# Altium footprint library CONN_TBLOCK_5P0_B.PcbLib: 72 footprints (part 2 of 5)
Each footprint in its own frame and in the unit in brackets; x right, y up, seen from the top. Pads: shape width x height; smd on the part's side, far side on the other; paste and mask are expansions set on the pad; w line width, h text height; cw(c..) or ccw(c..) is an arc to the next point about the centre after c.
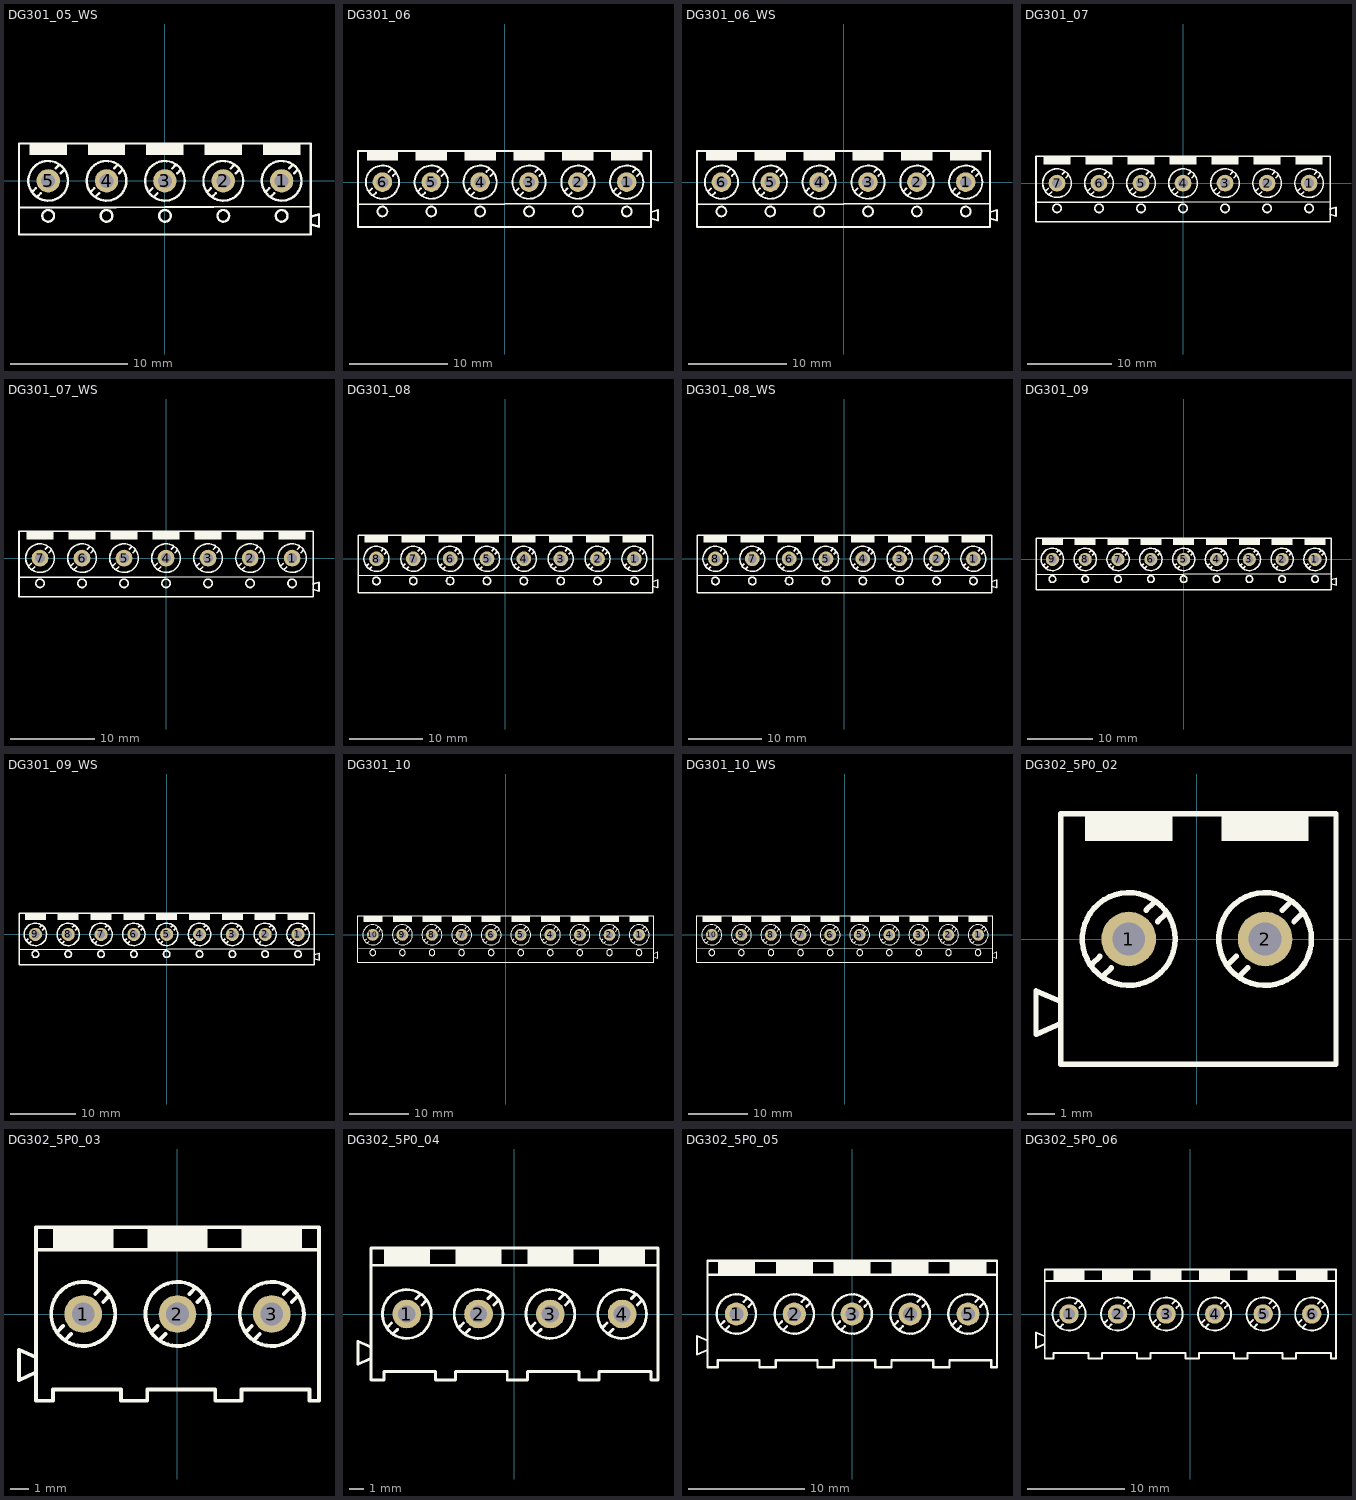
[diagram p1: the footprints below, top view; thin cyan lines are the x and y axes]

## DG301_05_WS [mm] "Terminal Screw, Pitch 5mm, H 10mm, with spade"
height 19
pads (5):
  round 2 / inner round 2 / far side rect 2.4x3 hole 1.2: 1(10,0)
  round 2 / inner round 2 / far side oval 2.4x3 hole 1.2: 2(5,0) 3(0,0) 4(-5,0) 5(-10,0)
Top Overlay:
  circle w0.2: c-10,0 r1.7
  circle w0.2: c-10,-3 r0.5
  circle w0.2: c-5,0 r1.7
  circle w0.2: c0,0 r1.7
  circle w0.2: c-5,-3 r0.5
  circle w0.2: c0,-3 r0.5
  circle w0.2: c5,0 r1.7
  circle w0.2: c10,0 r1.7
  circle w0.2: c5,-3 r0.5
  circle w0.2: c10,-3 r0.5
  region: -8.4,3.2 -11.6,3.2 -11.6,2.2 -8.4,2.2
  region: 1.6,3.2 -1.6,3.2 -1.6,2.2 1.6,2.2
  region: -3.4,3.2 -6.6,3.2 -6.6,2.2 -3.4,2.2
  region: 11.6,3.2 8.4,3.2 8.4,2.2 11.6,2.2
  region: 6.6,3.2 3.4,3.2 3.4,2.2 6.6,2.2
  lines w0.2: -12.5,-2.3 12.5,-2.2 ; -11.343,-0.919 -11.06,-0.636 ; -10.919,-1.344 -10.636,-1.061 ; -9.363,1.061 -9.081,1.343 ; -8.939,0.636 -8.656,0.919 ; -6.343,-0.919 -6.061,-0.636 ; -5.919,-1.344 -5.636,-1.061 ; -4.364,1.061 -4.081,1.343 ; -3.939,0.636 -3.656,0.919 ; -1.344,-0.919 -1.061,-0.636 ; -0.919,-1.344 -0.636,-1.061 ; 0.636,1.061 0.919,1.343 ; 1.061,0.636 1.343,0.919 ; 3.656,-0.919 3.939,-0.636 ; 4.081,-1.344 4.363,-1.061 ; 5.636,1.061 5.919,1.343 ; 6.06,0.636 6.343,0.919 ; 8.656,-0.919 8.939,-0.636 ; 9.081,-1.344 9.363,-1.061 ; 10.636,1.061 10.919,1.343 ; 11.06,0.636 11.343,0.919 ; 12.476,-3.722 13.2,-3.941 13.2,-2.867 12.494,-3.081 ; -12.5,-4.6 12.5,-4.6 12.5,3.2 -12.5,3.2 -12.5,-4.6
3D body "DG301-5.0-05.stp": height 10, standoff -4.3, extent -12.5,-4.5 13.1,3.1
3D body "MDD1.25-110(5).step": height 6.3, standoff 0.91, extent -12.697,-1.524 -7.303,17.476
3D body "MDD1.25-110(5).step": height 6.3, standoff 0.91, extent -7.697,-1.524 -2.303,17.476
3D body "MDD1.25-110(5).step": height 6.3, standoff 0.91, extent -2.697,-1.524 2.697,17.476
3D body "MDD1.25-110(5).step": height 6.3, standoff 0.91, extent 2.303,-1.524 7.697,17.476
3D body "MDD1.25-110(5).step": height 6.3, standoff 0.91, extent 7.303,-1.524 12.697,17.476

## DG301_06 [mm] "Terminal Screw, Pitch 5mm, Blue, H 10mm"
height 10
pads (6):
  round 2 / inner round 2 / far side rect 2.4x3 hole 1.2: 1(12.5,0)
  round 2 / inner round 2 / far side oval 2.4x3 hole 1.2: 2(7.5,0) 3(2.5,0) 4(-2.5,0) 5(-7.5,0) 6(-12.5,0)
Top Overlay:
  circle w0.2: c-12.5,0 r1.7
  circle w0.2: c-7.5,0 r1.7
  circle w0.2: c-12.5,-3 r0.5
  circle w0.2: c-7.5,-3 r0.5
  circle w0.2: c-2.5,0 r1.7
  circle w0.2: c2.5,0 r1.7
  circle w0.2: c-2.5,-3 r0.5
  circle w0.2: c2.5,-3 r0.5
  circle w0.2: c7.5,0 r1.7
  circle w0.2: c12.5,0 r1.7
  circle w0.2: c7.5,-3 r0.5
  circle w0.2: c12.5,-3 r0.5
  region: -5.9,3.2 -9.1,3.2 -9.1,2.2 -5.9,2.2
  region: -10.9,3.2 -14.1,3.2 -14.1,2.2 -10.9,2.2
  region: 4.1,3.2 0.9,3.2 0.9,2.2 4.1,2.2
  region: -0.9,3.2 -4.1,3.2 -4.1,2.2 -0.9,2.2
  region: 14.1,3.2 10.9,3.2 10.9,2.2 14.1,2.2
  region: 9.1,3.2 5.9,3.2 5.9,2.2 9.1,2.2
  lines w0.2: -15,-2.3 15,-2.2 ; -13.843,-0.919 -13.56,-0.636 ; -13.419,-1.344 -13.136,-1.061 ; -11.863,1.061 -11.581,1.343 ; -11.439,0.636 -11.156,0.919 ; -8.843,-0.919 -8.561,-0.636 ; -8.419,-1.344 -8.136,-1.061 ; -6.863,1.061 -6.581,1.343 ; -6.439,0.636 -6.156,0.919 ; -3.844,-0.919 -3.561,-0.636 ; -3.419,-1.344 -3.136,-1.061 ; -1.864,1.061 -1.581,1.343 ; -1.439,0.636 -1.157,0.919 ; 1.156,-0.919 1.439,-0.636 ; 1.581,-1.344 1.863,-1.061 ; 3.136,1.061 3.419,1.343 ; 3.561,0.636 3.843,0.919 ; 6.156,-0.919 6.439,-0.636 ; 6.581,-1.344 6.863,-1.061 ; 8.136,1.061 8.419,1.343 ; 8.56,0.636 8.843,0.919 ; 11.156,-0.919 11.439,-0.636 ; 11.58,-1.344 11.863,-1.061 ; 13.136,1.061 13.419,1.343 ; 13.56,0.636 13.843,0.919 ; 14.976,-3.722 15.7,-3.941 15.7,-2.867 14.994,-3.081 ; -15,-4.6 15,-4.6 15,3.2 -15,3.2 -15,-4.6
3D body "DG301-5.0-06.stp": height 10, standoff -4.3, extent -15,-4.5 15.6,3.1

## DG301_06_WS [mm] "Terminal Screw, Pitch 5mm, H 10mm, with spade"
height 19
pads (6):
  round 2 / inner round 2 / far side rect 2.4x3 hole 1.2: 1(12.5,0)
  round 2 / inner round 2 / far side oval 2.4x3 hole 1.2: 2(7.5,0) 3(2.5,0) 4(-2.5,0) 5(-7.5,0) 6(-12.5,0)
Top Overlay:
  circle w0.2: c12.5,-3 r0.5
  circle w0.2: c7.5,-3 r0.5
  circle w0.2: c12.5,0 r1.7
  circle w0.2: c7.5,0 r1.7
  circle w0.2: c2.5,-3 r0.5
  circle w0.2: c-2.5,-3 r0.5
  circle w0.2: c2.5,0 r1.7
  circle w0.2: c-2.5,0 r1.7
  circle w0.2: c-7.5,-3 r0.5
  circle w0.2: c-12.5,-3 r0.5
  circle w0.2: c-7.5,0 r1.7
  circle w0.2: c-12.5,0 r1.7
  region: 9.1,3.2 5.9,3.2 5.9,2.2 9.1,2.2
  region: 14.1,3.2 10.9,3.2 10.9,2.2 14.1,2.2
  region: -0.9,3.2 -4.1,3.2 -4.1,2.2 -0.9,2.2
  region: 4.1,3.2 0.9,3.2 0.9,2.2 4.1,2.2
  region: -10.9,3.2 -14.1,3.2 -14.1,2.2 -10.9,2.2
  region: -5.9,3.2 -9.1,3.2 -9.1,2.2 -5.9,2.2
  lines w0.2: -15,-2.3 15,-2.2 ; -13.843,-0.919 -13.56,-0.636 ; -13.419,-1.344 -13.136,-1.061 ; -11.863,1.061 -11.581,1.343 ; -11.439,0.636 -11.156,0.919 ; -8.843,-0.919 -8.561,-0.636 ; -8.419,-1.344 -8.136,-1.061 ; -6.863,1.061 -6.581,1.343 ; -6.439,0.636 -6.156,0.919 ; -3.844,-0.919 -3.561,-0.636 ; -3.419,-1.344 -3.136,-1.061 ; -1.864,1.061 -1.581,1.343 ; -1.439,0.636 -1.157,0.919 ; 1.156,-0.919 1.439,-0.636 ; 1.581,-1.344 1.863,-1.061 ; 3.136,1.061 3.419,1.343 ; 3.561,0.636 3.843,0.919 ; 6.156,-0.919 6.439,-0.636 ; 6.581,-1.344 6.863,-1.061 ; 8.136,1.061 8.419,1.343 ; 8.56,0.636 8.843,0.919 ; 11.156,-0.919 11.439,-0.636 ; 11.58,-1.344 11.863,-1.061 ; 13.136,1.061 13.419,1.343 ; 13.56,0.636 13.843,0.919 ; 14.976,-3.722 15.7,-3.941 15.7,-2.867 14.994,-3.081 ; -15,-4.6 -15,3.2 15,3.2 15,-4.6 -15,-4.6
3D body "DG301-5.0-06.stp": height 10, standoff -4.3, extent -15,-4.5 15.6,3.1
3D body "MDD1.25-110(5).step": height 6.3, standoff 0.91, extent -15.197,-1.524 -9.803,17.476
3D body "MDD1.25-110(5).step": height 6.3, standoff 0.91, extent -10.197,-1.524 -4.803,17.476
3D body "MDD1.25-110(5).step": height 6.3, standoff 0.91, extent -5.197,-1.524 0.197,17.476
3D body "MDD1.25-110(5).step": height 6.3, standoff 0.91, extent -0.197,-1.524 5.197,17.476
3D body "MDD1.25-110(5).step": height 6.3, standoff 0.91, extent 4.803,-1.524 10.197,17.476
3D body "MDD1.25-110(5).step": height 6.3, standoff 0.91, extent 9.803,-1.524 15.197,17.476

## DG301_07 [mm] "Terminal Screw, Pitch 5mm, Blue, H 10mm"
height 10
pads (7):
  round 2 / inner round 2 / far side rect 2.4x3 hole 1.2: 1(15,0)
  round 2 / inner round 2 / far side oval 2.4x3 hole 1.2: 2(10,0) 3(5,0) 4(0,0) 5(-5,0) 6(-10,0) 7(-15,0)
Top Overlay:
  circle w0.2: c15,-3 r0.5
  circle w0.2: c10,-3 r0.5
  circle w0.2: c15,0 r1.7
  circle w0.2: c10,0 r1.7
  circle w0.2: c5,-3 r0.5
  circle w0.2: c0,-3 r0.5
  circle w0.2: c5,0 r1.7
  circle w0.2: c0,0 r1.7
  circle w0.2: c-5,-3 r0.5
  circle w0.2: c-10,-3 r0.5
  circle w0.2: c-5,0 r1.7
  circle w0.2: c-10,0 r1.7
  circle w0.2: c-15,-3 r0.5
  circle w0.2: c-15,0 r1.7
  region: 11.6,3.2 8.4,3.2 8.4,2.2 11.6,2.2
  region: 16.6,3.2 13.4,3.2 13.4,2.2 16.6,2.2
  region: 1.6,3.2 -1.6,3.2 -1.6,2.2 1.6,2.2
  region: 6.6,3.2 3.4,3.2 3.4,2.2 6.6,2.2
  region: -8.4,3.2 -11.6,3.2 -11.6,2.2 -8.4,2.2
  region: -3.4,3.2 -6.6,3.2 -6.6,2.2 -3.4,2.2
  region: -13.4,3.2 -16.6,3.2 -16.6,2.2 -13.4,2.2
  lines w0.2: -17.5,-2.3 17.5,-2.2 ; -16.343,-0.919 -16.06,-0.636 ; -15.919,-1.344 -15.636,-1.061 ; -14.363,1.061 -14.08,1.343 ; -13.939,0.636 -13.656,0.919 ; -11.343,-0.919 -11.061,-0.636 ; -10.919,-1.344 -10.636,-1.061 ; -9.363,1.061 -9.081,1.343 ; -8.939,0.636 -8.656,0.919 ; -6.343,-0.919 -6.061,-0.636 ; -5.919,-1.344 -5.636,-1.061 ; -4.364,1.061 -4.081,1.343 ; -3.939,0.636 -3.656,0.919 ; -1.344,-0.919 -1.061,-0.636 ; -0.919,-1.344 -0.637,-1.061 ; 0.636,1.061 0.919,1.343 ; 1.061,0.636 1.343,0.919 ; 3.656,-0.919 3.939,-0.636 ; 4.081,-1.344 4.363,-1.061 ; 5.636,1.061 5.919,1.343 ; 6.06,0.636 6.343,0.919 ; 8.656,-0.919 8.939,-0.636 ; 9.08,-1.344 9.363,-1.061 ; 10.636,1.061 10.919,1.343 ; 11.06,0.636 11.343,0.919 ; 13.656,-0.919 13.939,-0.636 ; 14.08,-1.344 14.363,-1.061 ; 15.636,1.061 15.919,1.343 ; 16.06,0.636 16.343,0.919 ; 17.476,-3.722 18.2,-3.941 18.2,-2.867 17.494,-3.081 ; -17.5,-4.6 -17.5,3.2 17.5,3.2 17.5,-4.6 -17.5,-4.6
3D body "DG301-5.0-07.stp": height 10, standoff -4.3, extent -17.5,-4.5 18.1,3.1

## DG301_07_WS [mm] "Terminal Screw, Pitch 5mm, H 10mm, with spade"
height 19
pads (7):
  round 2 / inner round 2 / far side rect 2.4x3 hole 1.2: 1(15,0)
  round 2 / inner round 2 / far side oval 2.4x3 hole 1.2: 2(10,0) 3(5,0) 4(0,0) 5(-5,0) 6(-10,0) 7(-15,0)
Top Overlay:
  circle w0.2: c15,-3 r0.5
  circle w0.2: c10,-3 r0.5
  circle w0.2: c15,0 r1.7
  circle w0.2: c10,0 r1.7
  circle w0.2: c5,-3 r0.5
  circle w0.2: c0,-3 r0.5
  circle w0.2: c5,0 r1.7
  circle w0.2: c0,0 r1.7
  circle w0.2: c-5,-3 r0.5
  circle w0.2: c-10,-3 r0.5
  circle w0.2: c-5,0 r1.7
  circle w0.2: c-10,0 r1.7
  circle w0.2: c-15,-3 r0.5
  circle w0.2: c-15,0 r1.7
  region: 11.6,3.2 8.4,3.2 8.4,2.2 11.6,2.2
  region: 16.6,3.2 13.4,3.2 13.4,2.2 16.6,2.2
  region: 1.6,3.2 -1.6,3.2 -1.6,2.2 1.6,2.2
  region: 6.6,3.2 3.4,3.2 3.4,2.2 6.6,2.2
  region: -8.4,3.2 -11.6,3.2 -11.6,2.2 -8.4,2.2
  region: -3.4,3.2 -6.6,3.2 -6.6,2.2 -3.4,2.2
  region: -13.4,3.2 -16.6,3.2 -16.6,2.2 -13.4,2.2
  lines w0.2: -17.5,-2.3 17.5,-2.2 ; -16.343,-0.919 -16.06,-0.636 ; -15.919,-1.344 -15.636,-1.061 ; -14.363,1.061 -14.08,1.343 ; -13.939,0.636 -13.656,0.919 ; -11.343,-0.919 -11.061,-0.636 ; -10.919,-1.344 -10.636,-1.061 ; -9.363,1.061 -9.081,1.343 ; -8.939,0.636 -8.656,0.919 ; -6.343,-0.919 -6.061,-0.636 ; -5.919,-1.344 -5.636,-1.061 ; -4.364,1.061 -4.081,1.343 ; -3.939,0.636 -3.656,0.919 ; -1.344,-0.919 -1.061,-0.636 ; -0.919,-1.344 -0.637,-1.061 ; 0.636,1.061 0.919,1.343 ; 1.061,0.636 1.343,0.919 ; 3.656,-0.919 3.939,-0.636 ; 4.081,-1.344 4.363,-1.061 ; 5.636,1.061 5.919,1.343 ; 6.06,0.636 6.343,0.919 ; 8.656,-0.919 8.939,-0.636 ; 9.08,-1.344 9.363,-1.061 ; 10.636,1.061 10.919,1.343 ; 11.06,0.636 11.343,0.919 ; 13.656,-0.919 13.939,-0.636 ; 14.08,-1.344 14.363,-1.061 ; 15.636,1.061 15.919,1.343 ; 16.06,0.636 16.343,0.919 ; 17.476,-3.722 18.2,-3.941 18.2,-2.867 17.494,-3.081 ; -17.5,-4.6 -17.5,3.2 17.5,3.2 17.5,-4.6 -17.5,-4.6
3D body "DG301-5.0-07.stp": height 10, standoff -4.3, extent -17.5,-4.5 18.1,3.1
3D body "MDD1.25-110(5).step": height 6.3, standoff 0.91, extent -17.697,-1.524 -12.303,17.476
3D body "MDD1.25-110(5).step": height 6.3, standoff 0.91, extent -12.697,-1.524 -7.303,17.476
3D body "MDD1.25-110(5).step": height 6.3, standoff 0.91, extent -7.697,-1.524 -2.303,17.476
3D body "MDD1.25-110(5).step": height 6.3, standoff 0.91, extent -2.697,-1.524 2.697,17.476
3D body "MDD1.25-110(5).step": height 6.3, standoff 0.91, extent 2.303,-1.524 7.697,17.476
3D body "MDD1.25-110(5).step": height 6.3, standoff 0.91, extent 7.303,-1.524 12.697,17.476
3D body "MDD1.25-110(5).step": height 6.3, standoff 0.91, extent 12.303,-1.524 17.697,17.476

## DG301_08 [mm] "Terminal Screw, Pitch 5mm, Blue, H 10mm"
height 10
pads (8):
  round 2 / inner round 2 / far side rect 2.4x3 hole 1.2: 1(17.5,0)
  round 2 / inner round 2 / far side oval 2.4x3 hole 1.2: 2(12.5,0) 3(7.5,0) 4(2.5,0) 5(-2.5,0) 6(-7.5,0) 7(-12.5,0) 8(-17.5,0)
Top Overlay:
  circle w0.2: c-17.5,-3 r0.5
  circle w0.2: c-17.5,0 r1.7
  circle w0.2: c17.5,-3 r0.5
  circle w0.2: c12.5,-3 r0.5
  circle w0.2: c17.5,0 r1.7
  circle w0.2: c12.5,0 r1.7
  circle w0.2: c7.5,-3 r0.5
  circle w0.2: c2.5,-3 r0.5
  circle w0.2: c7.5,0 r1.7
  circle w0.2: c2.5,0 r1.7
  circle w0.2: c-2.5,-3 r0.5
  circle w0.2: c-7.5,-3 r0.5
  circle w0.2: c-2.5,0 r1.7
  circle w0.2: c-7.5,0 r1.7
  circle w0.2: c-12.5,-3 r0.5
  circle w0.2: c-12.5,0 r1.7
  region: -15.9,3.2 -19.1,3.2 -19.1,2.2 -15.9,2.2
  region: 14.1,3.2 10.9,3.2 10.9,2.2 14.1,2.2
  region: 19.1,3.2 15.9,3.2 15.9,2.2 19.1,2.2
  region: 4.1,3.2 0.9,3.2 0.9,2.2 4.1,2.2
  region: 9.1,3.2 5.9,3.2 5.9,2.2 9.1,2.2
  region: -5.9,3.2 -9.1,3.2 -9.1,2.2 -5.9,2.2
  region: -0.9,3.2 -4.1,3.2 -4.1,2.2 -0.9,2.2
  region: -10.9,3.2 -14.1,3.2 -14.1,2.2 -10.9,2.2
  lines w0.2: -20,-2.3 20,-2.2 ; -18.843,-0.919 -18.56,-0.636 ; -18.419,-1.344 -18.136,-1.061 ; -16.863,1.061 -16.58,1.343 ; -16.439,0.636 -16.156,0.919 ; -13.843,-0.919 -13.56,-0.636 ; -13.419,-1.344 -13.136,-1.061 ; -11.863,1.061 -11.581,1.343 ; -11.439,0.636 -11.156,0.919 ; -8.843,-0.919 -8.561,-0.636 ; -8.419,-1.344 -8.136,-1.061 ; -6.864,1.061 -6.581,1.343 ; -6.439,0.636 -6.156,0.919 ; -3.843,-0.919 -3.561,-0.636 ; -3.419,-1.344 -3.136,-1.061 ; -1.864,1.061 -1.581,1.343 ; -1.439,0.636 -1.156,0.919 ; 1.156,-0.919 1.439,-0.636 ; 1.581,-1.344 1.863,-1.061 ; 3.136,1.061 3.419,1.343 ; 3.56,0.636 3.843,0.919 ; 6.156,-0.919 6.439,-0.636 ; 6.581,-1.344 6.863,-1.061 ; 8.136,1.061 8.419,1.343 ; 8.56,0.636 8.843,0.919 ; 11.156,-0.919 11.439,-0.636 ; 11.58,-1.344 11.863,-1.061 ; 13.136,1.061 13.419,1.343 ; 13.56,0.636 13.843,0.919 ; 16.156,-0.919 16.439,-0.636 ; 16.58,-1.344 16.863,-1.061 ; 18.136,1.061 18.419,1.343 ; 18.56,0.636 18.843,0.919 ; 19.976,-3.722 20.7,-3.941 20.7,-2.867 19.994,-3.081 ; -20,-4.6 -20,3.2 20,3.2 20,-4.6 -20,-4.6
3D body "DG301-5.0-08.stp": height 10, standoff -4.3, extent -20,-4.5 20.6,3.1

## DG301_08_WS [mm] "Terminal Screw, Pitch 5mm, H 10mm, with spade"
height 19
pads (8):
  round 2 / inner round 2 / far side rect 2.4x3 hole 1.2: 1(17.5,0)
  round 2 / inner round 2 / far side oval 2.4x3 hole 1.2: 2(12.5,0) 3(7.5,0) 4(2.5,0) 5(-2.5,0) 6(-7.5,0) 7(-12.5,0) 8(-17.5,0)
Top Overlay:
  circle w0.2: c-17.5,0 r1.7
  circle w0.2: c-12.5,0 r1.7
  circle w0.2: c-17.5,-3 r0.5
  circle w0.2: c-12.5,-3 r0.5
  circle w0.2: c-7.5,0 r1.7
  circle w0.2: c-2.5,0 r1.7
  circle w0.2: c-7.5,-3 r0.5
  circle w0.2: c-2.5,-3 r0.5
  circle w0.2: c2.5,0 r1.7
  circle w0.2: c7.5,0 r1.7
  circle w0.2: c2.5,-3 r0.5
  circle w0.2: c7.5,-3 r0.5
  circle w0.2: c12.5,0 r1.7
  circle w0.2: c17.5,0 r1.7
  circle w0.2: c12.5,-3 r0.5
  circle w0.2: c17.5,-3 r0.5
  region: -10.9,3.2 -14.1,3.2 -14.1,2.2 -10.9,2.2
  region: -15.9,3.2 -19.1,3.2 -19.1,2.2 -15.9,2.2
  region: -0.9,3.2 -4.1,3.2 -4.1,2.2 -0.9,2.2
  region: -5.9,3.2 -9.1,3.2 -9.1,2.2 -5.9,2.2
  region: 9.1,3.2 5.9,3.2 5.9,2.2 9.1,2.2
  region: 4.1,3.2 0.9,3.2 0.9,2.2 4.1,2.2
  region: 19.1,3.2 15.9,3.2 15.9,2.2 19.1,2.2
  region: 14.1,3.2 10.9,3.2 10.9,2.2 14.1,2.2
  lines w0.2: -20,-2.3 20,-2.2 ; -18.843,-0.919 -18.56,-0.636 ; -18.419,-1.344 -18.136,-1.061 ; -16.863,1.061 -16.58,1.343 ; -16.439,0.636 -16.156,0.919 ; -13.843,-0.919 -13.56,-0.636 ; -13.419,-1.344 -13.136,-1.061 ; -11.863,1.061 -11.581,1.343 ; -11.439,0.636 -11.156,0.919 ; -8.843,-0.919 -8.561,-0.636 ; -8.419,-1.344 -8.136,-1.061 ; -6.864,1.061 -6.581,1.343 ; -6.439,0.636 -6.156,0.919 ; -3.843,-0.919 -3.561,-0.636 ; -3.419,-1.344 -3.136,-1.061 ; -1.864,1.061 -1.581,1.343 ; -1.439,0.636 -1.156,0.919 ; 1.156,-0.919 1.439,-0.636 ; 1.581,-1.344 1.863,-1.061 ; 3.136,1.061 3.419,1.343 ; 3.56,0.636 3.843,0.919 ; 6.156,-0.919 6.439,-0.636 ; 6.581,-1.344 6.863,-1.061 ; 8.136,1.061 8.419,1.343 ; 8.56,0.636 8.843,0.919 ; 11.156,-0.919 11.439,-0.636 ; 11.58,-1.344 11.863,-1.061 ; 13.136,1.061 13.419,1.343 ; 13.56,0.636 13.843,0.919 ; 16.156,-0.919 16.439,-0.636 ; 16.58,-1.344 16.863,-1.061 ; 18.136,1.061 18.419,1.343 ; 18.56,0.636 18.843,0.919 ; 19.976,-3.722 20.7,-3.941 20.7,-2.867 19.994,-3.081 ; -20,-4.6 20,-4.6 20,3.2 -20,3.2 -20,-4.6
3D body "DG301-5.0-08.stp": height 10, standoff -4.3, extent -20,-4.5 20.6,3.1
3D body "MDD1.25-110(5).step": height 6.3, standoff 0.91, extent -20.197,-1.524 -14.803,17.476
3D body "MDD1.25-110(5).step": height 6.3, standoff 0.91, extent -15.197,-1.524 -9.803,17.476
3D body "MDD1.25-110(5).step": height 6.3, standoff 0.91, extent -10.197,-1.524 -4.803,17.476
3D body "MDD1.25-110(5).step": height 6.3, standoff 0.91, extent -5.197,-1.524 0.197,17.476
3D body "MDD1.25-110(5).step": height 6.3, standoff 0.91, extent -0.197,-1.524 5.197,17.476
3D body "MDD1.25-110(5).step": height 6.3, standoff 0.91, extent 4.803,-1.524 10.197,17.476
3D body "MDD1.25-110(5).step": height 6.3, standoff 0.91, extent 9.803,-1.524 15.197,17.476
3D body "MDD1.25-110(5).step": height 6.3, standoff 0.91, extent 14.803,-1.524 20.197,17.476

## DG301_09 [mm] "Terminal Screw, Pitch 5mm, Blue, H 10mm"
height 10
pads (9):
  round 2 / inner round 2 / far side rect 2.4x3 hole 1.2: 1(20,0)
  round 2 / inner round 2 / far side oval 2.4x3 hole 1.2: 2(15,0) 3(10,0) 4(5,0) 5(0,0) 6(-5,0) 7(-10,0) 8(-15,0) 9(-20,0)
Top Overlay:
  circle w0.2: c19.999,-3 r0.5
  circle w0.2: c15,-3 r0.5
  circle w0.2: c20,0 r1.7
  circle w0.2: c15,0 r1.7
  circle w0.2: c10,-3 r0.5
  circle w0.2: c5,-3 r0.5
  circle w0.2: c10,0 r1.7
  circle w0.2: c5,0 r1.7
  circle w0.2: c0,-3 r0.5
  circle w0.2: c-5,-3 r0.5
  circle w0.2: c0,0 r1.7
  circle w0.2: c-5,0 r1.7
  circle w0.2: c-10,-3 r0.5
  circle w0.2: c-15,-3 r0.5
  circle w0.2: c-10,0 r1.7
  circle w0.2: c-15,0 r1.7
  circle w0.2: c-20,-3 r0.5
  circle w0.2: c-20,0 r1.7
  region: 16.6,3.2 13.4,3.2 13.4,2.2 16.6,2.2
  region: 21.6,3.2 18.4,3.2 18.4,2.2 21.6,2.2
  region: 6.6,3.2 3.4,3.2 3.4,2.2 6.6,2.2
  region: 11.6,3.2 8.4,3.2 8.4,2.2 11.6,2.2
  region: -3.4,3.2 -6.6,3.2 -6.6,2.2 -3.4,2.2
  region: 1.6,3.2 -1.6,3.2 -1.6,2.2 1.6,2.2
  region: -13.4,3.2 -16.6,3.2 -16.6,2.2 -13.4,2.2
  region: -8.4,3.2 -11.6,3.2 -11.6,2.2 -8.4,2.2
  region: -18.4,3.2 -21.6,3.2 -21.6,2.2 -18.4,2.2
  lines w0.2: -22.5,-2.3 22.5,-2.2 ; -21.343,-0.919 -21.06,-0.636 ; -20.919,-1.344 -20.636,-1.061 ; -19.363,1.061 -19.08,1.343 ; -18.939,0.636 -18.656,0.919 ; -16.343,-0.919 -16.06,-0.636 ; -15.919,-1.344 -15.636,-1.061 ; -14.363,1.061 -14.081,1.343 ; -13.939,0.636 -13.656,0.919 ; -11.343,-0.919 -11.06,-0.636 ; -10.919,-1.344 -10.636,-1.061 ; -9.363,1.061 -9.081,1.343 ; -8.939,0.636 -8.656,0.919 ; -6.343,-0.919 -6.061,-0.636 ; -5.919,-1.344 -5.636,-1.061 ; -4.364,1.061 -4.081,1.343 ; -3.939,0.636 -3.656,0.919 ; -1.344,-0.919 -1.061,-0.636 ; -0.919,-1.344 -0.636,-1.061 ; 0.636,1.061 0.919,1.343 ; 1.061,0.636 1.343,0.919 ; 3.656,-0.919 3.939,-0.636 ; 4.081,-1.344 4.363,-1.061 ; 5.636,1.061 5.919,1.343 ; 6.06,0.636 6.343,0.919 ; 8.656,-0.919 8.939,-0.636 ; 9.08,-1.344 9.363,-1.061 ; 10.636,1.061 10.919,1.343 ; 11.06,0.636 11.343,0.919 ; 13.656,-0.919 13.939,-0.636 ; 14.08,-1.344 14.363,-1.061 ; 15.636,1.061 15.919,1.343 ; 16.06,0.636 16.343,0.919 ; 18.656,-0.919 18.939,-0.636 ; 19.08,-1.344 19.363,-1.061 ; 20.636,1.061 20.919,1.343 ; 21.06,0.636 21.343,0.919 ; 22.476,-3.722 23.2,-3.941 23.2,-2.867 22.494,-3.081 ; -22.5,-4.6 -22.5,3.2 22.5,3.2 22.5,-4.6 -22.5,-4.6
3D body "DG301-5.0-09.stp": height 10, standoff -4.3, extent -22.5,-4.5 23.1,3.1

## DG301_09_WS [mm] "Terminal Screw, Pitch 5mm, H 10mm, with spade"
height 19
pads (9):
  round 2 / inner round 2 / far side rect 2.4x3 hole 1.2: 1(20,0)
  round 2 / inner round 2 / far side oval 2.4x3 hole 1.2: 2(15,0) 3(10,0) 4(5,0) 5(0,0) 6(-5,0) 7(-10,0) 8(-15,0) 9(-20,0)
Top Overlay:
  circle w0.2: c19.999,-3 r0.5
  circle w0.2: c15,-3 r0.5
  circle w0.2: c20,0 r1.7
  circle w0.2: c15,0 r1.7
  circle w0.2: c10,-3 r0.5
  circle w0.2: c5,-3 r0.5
  circle w0.2: c10,0 r1.7
  circle w0.2: c5,0 r1.7
  circle w0.2: c0,-3 r0.5
  circle w0.2: c-5,-3 r0.5
  circle w0.2: c0,0 r1.7
  circle w0.2: c-5,0 r1.7
  circle w0.2: c-10,-3 r0.5
  circle w0.2: c-15,-3 r0.5
  circle w0.2: c-10,0 r1.7
  circle w0.2: c-15,0 r1.7
  circle w0.2: c-20,-3 r0.5
  circle w0.2: c-20,0 r1.7
  region: 16.6,3.2 13.4,3.2 13.4,2.2 16.6,2.2
  region: 21.6,3.2 18.4,3.2 18.4,2.2 21.6,2.2
  region: 6.6,3.2 3.4,3.2 3.4,2.2 6.6,2.2
  region: 11.6,3.2 8.4,3.2 8.4,2.2 11.6,2.2
  region: -3.4,3.2 -6.6,3.2 -6.6,2.2 -3.4,2.2
  region: 1.6,3.2 -1.6,3.2 -1.6,2.2 1.6,2.2
  region: -13.4,3.2 -16.6,3.2 -16.6,2.2 -13.4,2.2
  region: -8.4,3.2 -11.6,3.2 -11.6,2.2 -8.4,2.2
  region: -18.4,3.2 -21.6,3.2 -21.6,2.2 -18.4,2.2
  lines w0.2: -22.5,-2.3 22.5,-2.2 ; -21.343,-0.919 -21.06,-0.636 ; -20.919,-1.344 -20.636,-1.061 ; -19.363,1.061 -19.08,1.343 ; -18.939,0.636 -18.656,0.919 ; -16.343,-0.919 -16.06,-0.636 ; -15.919,-1.344 -15.636,-1.061 ; -14.363,1.061 -14.081,1.343 ; -13.939,0.636 -13.656,0.919 ; -11.343,-0.919 -11.06,-0.636 ; -10.919,-1.344 -10.636,-1.061 ; -9.363,1.061 -9.081,1.343 ; -8.939,0.636 -8.656,0.919 ; -6.343,-0.919 -6.061,-0.636 ; -5.919,-1.344 -5.636,-1.061 ; -4.364,1.061 -4.081,1.343 ; -3.939,0.636 -3.656,0.919 ; -1.344,-0.919 -1.061,-0.636 ; -0.919,-1.344 -0.636,-1.061 ; 0.636,1.061 0.919,1.343 ; 1.061,0.636 1.343,0.919 ; 3.656,-0.919 3.939,-0.636 ; 4.081,-1.344 4.363,-1.061 ; 5.636,1.061 5.919,1.343 ; 6.06,0.636 6.343,0.919 ; 8.656,-0.919 8.939,-0.636 ; 9.08,-1.344 9.363,-1.061 ; 10.636,1.061 10.919,1.343 ; 11.06,0.636 11.343,0.919 ; 13.656,-0.919 13.939,-0.636 ; 14.08,-1.344 14.363,-1.061 ; 15.636,1.061 15.919,1.343 ; 16.06,0.636 16.343,0.919 ; 18.656,-0.919 18.939,-0.636 ; 19.08,-1.344 19.363,-1.061 ; 20.636,1.061 20.919,1.343 ; 21.06,0.636 21.343,0.919 ; 22.476,-3.722 23.2,-3.941 23.2,-2.867 22.494,-3.081 ; -22.5,-4.6 -22.5,3.2 22.5,3.2 22.5,-4.6 -22.5,-4.6
3D body "DG301-5.0-09.stp": height 10, standoff -4.3, extent -22.5,-4.5 23.1,3.1
3D body "MDD1.25-110(5).step": height 6.3, standoff 0.91, extent -22.696,-1.524 -17.303,17.476
3D body "MDD1.25-110(5).step": height 6.3, standoff 0.91, extent -17.697,-1.524 -12.303,17.476
3D body "MDD1.25-110(5).step": height 6.3, standoff 0.91, extent -12.697,-1.524 -7.303,17.476
3D body "MDD1.25-110(5).step": height 6.3, standoff 0.91, extent -7.697,-1.524 -2.303,17.476
3D body "MDD1.25-110(5).step": height 6.3, standoff 0.91, extent -2.697,-1.524 2.697,17.476
3D body "MDD1.25-110(5).step": height 6.3, standoff 0.91, extent 2.303,-1.524 7.697,17.476
3D body "MDD1.25-110(5).step": height 6.3, standoff 0.91, extent 7.303,-1.524 12.697,17.476
3D body "MDD1.25-110(5).step": height 6.3, standoff 0.91, extent 12.303,-1.524 17.697,17.476
3D body "MDD1.25-110(5).step": height 6.3, standoff 0.91, extent 17.303,-1.524 22.696,17.476

## DG301_10 [mm] "Terminal Screw, Pitch 5mm, Blue, H 10mm"
height 10
pads (10):
  round 2 / inner round 2 / far side rect 2.4x3 hole 1.2: 1(22.499,0)
  round 2 / inner round 2 / far side oval 2.4x3 hole 1.2: 2(17.5,0) 3(12.5,0) 4(7.5,0) 5(2.5,0) 6(-2.5,0) 7(-7.5,0) 8(-12.5,0) 9(-17.5,0) 10(-22.499,0)
Top Overlay:
  circle w0.2: c-22.5,0 r1.7
  circle w0.2: c-17.5,0 r1.7
  circle w0.2: c-22.5,-3 r0.5
  circle w0.2: c-17.5,-3 r0.5
  circle w0.2: c-12.5,0 r1.7
  circle w0.2: c-7.5,0 r1.7
  circle w0.2: c-12.5,-3 r0.5
  circle w0.2: c-7.5,-3 r0.5
  circle w0.2: c-2.5,0 r1.7
  circle w0.2: c2.5,0 r1.7
  circle w0.2: c-2.5,-3 r0.5
  circle w0.2: c2.5,-3 r0.5
  circle w0.2: c7.5,0 r1.7
  circle w0.2: c12.5,0 r1.7
  circle w0.2: c7.5,-3 r0.5
  circle w0.2: c12.5,-3 r0.5
  circle w0.2: c17.5,0 r1.7
  circle w0.2: c22.499,0 r1.7
  circle w0.2: c17.499,-3 r0.5
  circle w0.2: c22.499,-3 r0.5
  region: -15.9,3.2 -19.1,3.2 -19.1,2.2 -15.9,2.2
  region: -20.9,3.2 -24.1,3.2 -24.1,2.2 -20.9,2.2
  region: -5.9,3.2 -9.1,3.2 -9.1,2.2 -5.9,2.2
  region: -10.9,3.2 -14.1,3.2 -14.1,2.2 -10.9,2.2
  region: 4.1,3.2 0.9,3.2 0.9,2.2 4.1,2.2
  region: -0.9,3.2 -4.1,3.2 -4.1,2.2 -0.9,2.2
  region: 14.1,3.2 10.9,3.2 10.9,2.2 14.1,2.2
  region: 9.1,3.2 5.9,3.2 5.9,2.2 9.1,2.2
  region: 24.099,3.2 20.899,3.2 20.899,2.2 24.099,2.2
  region: 19.1,3.2 15.9,3.2 15.9,2.2 19.1,2.2
  lines w0.2: -25,-2.3 25,-2.2 ; -23.843,-0.919 -23.56,-0.636 ; -23.419,-1.344 -23.136,-1.061 ; -21.863,1.061 -21.58,1.343 ; -21.439,0.636 -21.156,0.919 ; -18.843,-0.919 -18.56,-0.636 ; -18.419,-1.344 -18.136,-1.061 ; -16.863,1.061 -16.58,1.343 ; -16.439,0.636 -16.156,0.919 ; -13.843,-0.919 -13.56,-0.636 ; -13.419,-1.344 -13.136,-1.061 ; -11.863,1.061 -11.581,1.343 ; -11.439,0.636 -11.156,0.919 ; -8.843,-0.919 -8.561,-0.636 ; -8.419,-1.344 -8.136,-1.061 ; -6.863,1.061 -6.581,1.343 ; -6.439,0.636 -6.156,0.919 ; -3.844,-0.919 -3.561,-0.636 ; -3.419,-1.344 -3.136,-1.061 ; -1.864,1.061 -1.581,1.343 ; -1.439,0.636 -1.157,0.919 ; 1.156,-0.919 1.439,-0.636 ; 1.581,-1.344 1.863,-1.061 ; 3.136,1.061 3.419,1.343 ; 3.561,0.636 3.843,0.919 ; 6.156,-0.919 6.439,-0.636 ; 6.58,-1.344 6.863,-1.061 ; 8.136,1.061 8.419,1.343 ; 8.56,0.636 8.843,0.919 ; 11.156,-0.919 11.439,-0.636 ; 11.58,-1.344 11.863,-1.061 ; 13.136,1.061 13.419,1.343 ; 13.56,0.636 13.843,0.919 ; 16.156,-0.919 16.439,-0.636 ; 16.58,-1.344 16.863,-1.061 ; 18.136,1.061 18.419,1.343 ; 18.56,0.636 18.843,0.919 ; 21.156,-0.919 21.439,-0.636 ; 21.58,-1.344 21.863,-1.061 ; 23.136,1.061 23.419,1.343 ; 23.56,0.636 23.843,0.919 ; 24.976,-3.722 25.7,-3.941 25.7,-2.867 24.994,-3.081 ; -25,-4.6 25,-4.6 25,3.2 -25,3.2 -25,-4.6
3D body "DG301-5.0-10.stp": height 10, standoff -4.3, extent -25,-4.5 25.6,3.1

## DG301_10_WS [mm] "Terminal Screw, Pitch 5mm, H 10mm, with spade"
height 19
pads (10):
  round 2 / inner round 2 / far side rect 2.4x3 hole 1.2: 1(22.499,0)
  round 2 / inner round 2 / far side oval 2.4x3 hole 1.2: 2(17.5,0) 3(12.5,0) 4(7.5,0) 5(2.5,0) 6(-2.5,0) 7(-7.5,0) 8(-12.5,0) 9(-17.5,0) 10(-22.499,0)
Top Overlay:
  circle w0.2: c22.499,-3 r0.5
  circle w0.2: c17.499,-3 r0.5
  circle w0.2: c22.499,0 r1.7
  circle w0.2: c17.5,0 r1.7
  circle w0.2: c12.5,-3 r0.5
  circle w0.2: c7.5,-3 r0.5
  circle w0.2: c12.5,0 r1.7
  circle w0.2: c7.5,0 r1.7
  circle w0.2: c2.5,-3 r0.5
  circle w0.2: c-2.5,-3 r0.5
  circle w0.2: c2.5,0 r1.7
  circle w0.2: c-2.5,0 r1.7
  circle w0.2: c-7.5,-3 r0.5
  circle w0.2: c-12.5,-3 r0.5
  circle w0.2: c-7.5,0 r1.7
  circle w0.2: c-12.5,0 r1.7
  circle w0.2: c-17.5,-3 r0.5
  circle w0.2: c-22.5,-3 r0.5
  circle w0.2: c-17.5,0 r1.7
  circle w0.2: c-22.5,0 r1.7
  region: 19.1,3.2 15.9,3.2 15.9,2.2 19.1,2.2
  region: 24.099,3.2 20.899,3.2 20.899,2.2 24.099,2.2
  region: 9.1,3.2 5.9,3.2 5.9,2.2 9.1,2.2
  region: 14.1,3.2 10.9,3.2 10.9,2.2 14.1,2.2
  region: -0.9,3.2 -4.1,3.2 -4.1,2.2 -0.9,2.2
  region: 4.1,3.2 0.9,3.2 0.9,2.2 4.1,2.2
  region: -10.9,3.2 -14.1,3.2 -14.1,2.2 -10.9,2.2
  region: -5.9,3.2 -9.1,3.2 -9.1,2.2 -5.9,2.2
  region: -20.9,3.2 -24.1,3.2 -24.1,2.2 -20.9,2.2
  region: -15.9,3.2 -19.1,3.2 -19.1,2.2 -15.9,2.2
  lines w0.2: -25,-2.3 25,-2.2 ; -23.843,-0.919 -23.56,-0.636 ; -23.419,-1.344 -23.136,-1.061 ; -21.863,1.061 -21.58,1.343 ; -21.439,0.636 -21.156,0.919 ; -18.843,-0.919 -18.56,-0.636 ; -18.419,-1.344 -18.136,-1.061 ; -16.863,1.061 -16.58,1.343 ; -16.439,0.636 -16.156,0.919 ; -13.843,-0.919 -13.56,-0.636 ; -13.419,-1.344 -13.136,-1.061 ; -11.863,1.061 -11.581,1.343 ; -11.439,0.636 -11.156,0.919 ; -8.843,-0.919 -8.561,-0.636 ; -8.419,-1.344 -8.136,-1.061 ; -6.863,1.061 -6.581,1.343 ; -6.439,0.636 -6.156,0.919 ; -3.844,-0.919 -3.561,-0.636 ; -3.419,-1.344 -3.136,-1.061 ; -1.864,1.061 -1.581,1.343 ; -1.439,0.636 -1.157,0.919 ; 1.156,-0.919 1.439,-0.636 ; 1.581,-1.344 1.863,-1.061 ; 3.136,1.061 3.419,1.343 ; 3.561,0.636 3.843,0.919 ; 6.156,-0.919 6.439,-0.636 ; 6.58,-1.344 6.863,-1.061 ; 8.136,1.061 8.419,1.343 ; 8.56,0.636 8.843,0.919 ; 11.156,-0.919 11.439,-0.636 ; 11.58,-1.344 11.863,-1.061 ; 13.136,1.061 13.419,1.343 ; 13.56,0.636 13.843,0.919 ; 16.156,-0.919 16.439,-0.636 ; 16.58,-1.344 16.863,-1.061 ; 18.136,1.061 18.419,1.343 ; 18.56,0.636 18.843,0.919 ; 21.156,-0.919 21.439,-0.636 ; 21.58,-1.344 21.863,-1.061 ; 23.136,1.061 23.419,1.343 ; 23.56,0.636 23.843,0.919 ; 24.976,-3.722 25.7,-3.941 25.7,-2.867 24.994,-3.081 ; -25,-4.6 -25,3.2 25,3.2 25,-4.6 -25,-4.6
3D body "MDD1.25-110(5).step": height 6.3, standoff 0.91, extent 19.803,-1.524 25.196,17.476
3D body "MDD1.25-110(5).step": height 6.3, standoff 0.91, extent 14.803,-1.524 20.196,17.476
3D body "MDD1.25-110(5).step": height 6.3, standoff 0.91, extent 9.803,-1.524 15.197,17.476
3D body "MDD1.25-110(5).step": height 6.3, standoff 0.91, extent 4.803,-1.524 10.197,17.476
3D body "MDD1.25-110(5).step": height 6.3, standoff 0.91, extent -0.197,-1.524 5.197,17.476
3D body "MDD1.25-110(5).step": height 6.3, standoff 0.91, extent -5.197,-1.524 0.197,17.476
3D body "MDD1.25-110(5).step": height 6.3, standoff 0.91, extent -10.197,-1.524 -4.803,17.476
3D body "MDD1.25-110(5).step": height 6.3, standoff 0.91, extent -15.197,-1.524 -9.803,17.476
3D body "MDD1.25-110(5).step": height 6.3, standoff 0.91, extent -20.197,-1.524 -14.803,17.476
3D body "MDD1.25-110(5).step": height 6.3, standoff 0.91, extent -25.196,-1.524 -19.803,17.476
3D body "DG301-5.0-10.stp": height 10, standoff -4.3, extent -25,-4.5 25.6,3.1

## DG302_5P0_02 [mm] "Terminal Screw, Pitch 5mm, H 13.5mm"
height 13.5
pads (2):
  round 2 / inner round 2 / far side rect 2.4x3 hole 1.2: 1(-2.5,0)
  round 2 / inner round 2 / far side oval 2.4x3 hole 1.2: 2(2.5,0)
Top Overlay:
  circle w0.2: c-2.5,0 r1.7
  circle w0.2: c2.5,0 r1.7
  rectangle: 0.9,3.6 4.1,4.6
  region: -0.9,4.6 -4.1,4.6 -4.1,3.6 -0.9,3.6
  lines w0.2: -5,-3.1 -5.9,-3.5 -5.9,-1.9 -5,-2.3 ; -3.843,-0.919 -3.561,-0.636 ; -3.419,-1.344 -3.136,-1.061 ; -1.864,1.061 -1.581,1.343 ; -1.439,0.636 -1.156,0.919 ; 1.156,-0.919 1.439,-0.636 ; 1.581,-1.344 1.864,-1.061 ; 3.136,1.061 3.419,1.343 ; 3.561,0.636 3.843,0.919 ; -5,-4.6 -5,4.6 5.1,4.6 5.1,-4.6 -5,-4.6
3D body "DG302-5.0-02P-14.stp": height 13.45, standoff -4.15, extent -5.8,-4.5 5,4.5

## DG302_5P0_03 [mm] "Terminal Screw, Pitch 5mm, H 13.5mm"
height 13.5
pads (3):
  round 2 / inner round 2 / far side rect 2.4x3 hole 1.2: 1(-5,0)
  round 2 / inner round 2 / far side oval 2.4x3 hole 1.2: 2(0,0) 3(5,0)
Top Overlay:
  circle w0.2: c5,0 r1.7
  circle w0.2: c-5,0 r1.7
  circle w0.2: c0,0 r1.7
  rectangle: 3.4,3.4 6.6,4.6
  rectangle: -1.6,3.4 1.6,4.6
  region: -3.4,4.6 -6.6,4.6 -6.6,3.4 -3.4,3.4
  lines w0.2: -7.5,3.4 7.5,3.4 ; -7.5,-3.1 -8.4,-3.5 -8.4,-1.9 -7.5,-2.3 ; -6.343,-0.919 -6.061,-0.636 ; -5.919,-1.344 -5.636,-1.061 ; -4.364,1.061 -4.081,1.343 ; -3.939,0.636 -3.656,0.919 ; -1.344,-0.919 -1.061,-0.636 ; -0.919,-1.344 -0.636,-1.061 ; 0.636,1.061 0.919,1.343 ; 1.061,0.636 1.343,0.919 ; 3.656,-0.919 3.939,-0.636 ; 4.081,-1.344 4.364,-1.061 ; 5.636,1.061 5.919,1.343 ; 6.061,0.636 6.343,0.919 ; -7.5,-4.6 -6.6,-4.6 -6.6,-4 -3,-4 -3,-4.6 -1.6,-4.6 -1.6,-4 2,-4 2,-4.6 3.4,-4.6 3.4,-4 7,-4 7,-4.6 7.5,-4.6 7.5,4.6 -7.5,4.6 -7.5,-4.6
3D body "DG302-5.0-03P-14.stp": height 13.5, standoff -4.1, extent -8.3,-4.5 7.5,4.5

## DG302_5P0_04 [mm] "Terminal Screw, Pitch 5mm, H 13.5mm"
height 13.5
pads (4):
  round 2 / inner round 2 / far side rect 2.4x3 hole 1.2: 1(-7.5,0)
  round 2 / inner round 2 / far side oval 2.4x3 hole 1.2: 2(-2.5,0) 3(2.5,0) 4(7.5,0)
Top Overlay:
  circle w0.2: c7.5,0 r1.7
  circle w0.2: c2.5,0 r1.7
  circle w0.2: c-7.5,0 r1.7
  circle w0.2: c-2.5,0 r1.7
  rectangle: 5.9,3.4 9.1,4.6
  region: 4.1,4.6 0.9,4.6 0.9,3.4 4.1,3.4
  rectangle: -4.1,3.4 -0.9,4.6
  region: -5.9,4.6 -9.1,4.6 -9.1,3.4 -5.9,3.4
  lines w0.2: -10,-3.1 -10.9,-3.5 -10.9,-1.9 -10,-2.3 ; -10,3.4 10,3.4 ; -8.843,-0.919 -8.561,-0.636 ; -8.419,-1.344 -8.136,-1.061 ; -6.864,1.061 -6.581,1.343 ; -6.439,0.636 -6.156,0.919 ; -3.843,-0.919 -3.561,-0.636 ; -3.419,-1.344 -3.136,-1.061 ; -1.864,1.061 -1.581,1.343 ; -1.439,0.636 -1.156,0.919 ; 1.156,-0.919 1.439,-0.636 ; 1.581,-1.344 1.864,-1.061 ; 3.136,1.061 3.419,1.343 ; 3.561,0.636 3.843,0.919 ; 6.156,-0.919 6.439,-0.636 ; 6.581,-1.344 6.863,-1.061 ; 8.136,1.061 8.419,1.343 ; 8.561,0.636 8.843,0.919 ; -10,-4.6 -9.1,-4.6 -9.1,-4 -5.5,-4 -5.5,-4.6 -4.1,-4.6 -4.1,-4 -0.5,-4 -0.5,-4.6 0.9,-4.6 0.9,-4 4.5,-4 4.5,-4.6 5.9,-4.6 5.9,-4 9.5,-4 9.5,-4.6 10,-4.6 10,4.6 -10,4.6 -10,-4.6
3D body "DG302-5.0-04P-14.stp": height 13.5, standoff -4.1, extent -10.8,-4.5 10,4.5

## DG302_5P0_05 [mm] "Terminal Screw, Pitch 5mm, H 13.5mm"
height 13.5
pads (5):
  round 2 / inner round 2 / far side rect 2.4x3 hole 1.2: 1(-10,0)
  round 2 / inner round 2 / far side oval 2.4x3 hole 1.2: 2(-5,0) 3(0,0) 4(5,0) 5(10,0)
Top Overlay:
  circle w0.2: c-5,0 r1.7
  circle w0.2: c-10,0 r1.7
  circle w0.2: c5,0 r1.7
  circle w0.2: c0,0 r1.7
  circle w0.2: c10,0 r1.7
  region: -8.4,4.6 -11.6,4.6 -11.6,3.4 -8.4,3.4
  rectangle: -6.6,3.4 -3.4,4.6
  region: 1.6,4.6 -1.6,4.6 -1.6,3.4 1.6,3.4
  rectangle: 3.4,3.4 6.6,4.6
  rectangle: 8.4,3.4 11.6,4.6
  lines w0.2: -12.5,3.4 12.5,3.4 ; -12.5,-3.1 -13.4,-3.5 -13.4,-1.9 -12.5,-2.3 ; -11.343,-0.919 -11.061,-0.636 ; -10.919,-1.344 -10.636,-1.061 ; -9.364,1.061 -9.081,1.343 ; -8.939,0.636 -8.656,0.919 ; -6.343,-0.919 -6.061,-0.636 ; -5.919,-1.344 -5.636,-1.061 ; -4.364,1.061 -4.081,1.343 ; -3.939,0.636 -3.656,0.919 ; -1.344,-0.919 -1.061,-0.636 ; -0.919,-1.344 -0.636,-1.061 ; 0.636,1.061 0.919,1.343 ; 1.061,0.636 1.343,0.919 ; 3.656,-0.919 3.939,-0.636 ; 4.081,-1.344 4.364,-1.061 ; 5.636,1.061 5.919,1.343 ; 6.061,0.636 6.343,0.919 ; 8.656,-0.919 8.939,-0.636 ; 9.081,-1.344 9.363,-1.061 ; 10.636,1.061 10.919,1.343 ; 11.061,0.636 11.343,0.919 ; -12.5,-4.6 -12.5,4.6 12.5,4.6 12.5,-4.6 12,-4.6 12,-4 8.4,-4 8.4,-4.6 7,-4.6 7,-4 3.4,-4 3.4,-4.6 2,-4.6 2,-4 -1.6,-4 -1.6,-4.6 -3,-4.6 -3,-4 -6.6,-4 -6.6,-4.6 -8,-4.6 -8,-4 -11.6,-4 -11.6,-4.6 -12.5,-4.6
3D body "DG302-5.0-05P-14.stp": height 13.5, standoff -4.1, extent -13.3,-4.5 12.5,4.5

## DG302_5P0_06 [mm] "Terminal Screw, Pitch 5mm, H 13.5mm"
height 13.5
pads (6):
  round 2 / inner round 2 / far side rect 2.4x3 hole 1.2: 1(-12.5,0)
  round 2 / inner round 2 / far side oval 2.4x3 hole 1.2: 2(-7.5,0) 3(-2.5,0) 4(2.5,0) 5(7.5,0) 6(12.5,0)
Top Overlay:
  circle w0.2: c12.5,0 r1.7
  circle w0.2: c7.5,0 r1.7
  circle w0.2: c-2.5,0 r1.7
  circle w0.2: c2.5,0 r1.7
  circle w0.2: c-12.5,0 r1.7
  circle w0.2: c-7.5,0 r1.7
  rectangle: 10.9,3.4 14.1,4.6
  region: 9.1,4.6 5.9,4.6 5.9,3.4 9.1,3.4
  rectangle: 0.9,3.4 4.1,4.6
  region: -0.9,4.6 -4.1,4.6 -4.1,3.4 -0.9,3.4
  rectangle: -9.1,3.4 -5.9,4.6
  region: -10.9,4.6 -14.1,4.6 -14.1,3.4 -10.9,3.4
  lines w0.2: -15,-3.1 -15.9,-3.5 -15.9,-1.9 -15,-2.3 ; -15,3.4 15,3.4 ; -13.843,-0.919 -13.561,-0.636 ; -13.419,-1.344 -13.136,-1.061 ; -11.863,1.061 -11.581,1.343 ; -11.439,0.636 -11.156,0.919 ; -8.843,-0.919 -8.561,-0.636 ; -8.419,-1.344 -8.136,-1.061 ; -6.864,1.061 -6.581,1.343 ; -6.439,0.636 -6.156,0.919 ; -3.843,-0.919 -3.561,-0.636 ; -3.419,-1.344 -3.136,-1.061 ; -1.864,1.061 -1.581,1.343 ; -1.439,0.636 -1.156,0.919 ; 1.156,-0.919 1.439,-0.636 ; 1.581,-1.344 1.864,-1.061 ; 3.136,1.061 3.419,1.343 ; 3.561,0.636 3.843,0.919 ; 6.156,-0.919 6.439,-0.636 ; 6.581,-1.344 6.863,-1.061 ; 8.136,1.061 8.419,1.343 ; 8.561,0.636 8.843,0.919 ; 11.156,-0.919 11.439,-0.636 ; 11.581,-1.344 11.863,-1.061 ; 13.136,1.061 13.419,1.343 ; 13.56,0.636 13.843,0.919 ; -15,-4.6 -14.1,-4.6 -14.1,-4 -10.5,-4 -10.5,-4.6 -9.1,-4.6 -9.1,-4 -5.5,-4 -5.5,-4.6 -4.1,-4.6 -4.1,-4 -0.5,-4 -0.5,-4.6 0.9,-4.6 0.9,-4 4.5,-4 4.5,-4.6 5.9,-4.6 5.9,-4 9.5,-4 9.5,-4.6 10.9,-4.6 10.9,-4 14.5,-4 14.5,-4.6 15,-4.6 15,4.6 -15,4.6 -15,-4.6
3D body "DG302-5.0-06P-14.stp": height 13.5, standoff -4.1, extent -15.8,-4.5 15,4.5